# Altium schematic symbol library ShottkyDiode.Schlib: 1 symbol
Pins are listed as number, name and electrical type; pins without a type are passive.

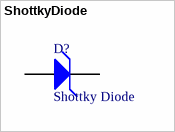
[diagram p0: symbol ShottkyDiode]

## ShottkyDiode
designator D?, comment Shottky Diode
Shottky Diode,RB751S40
pins: 1 K, 2 A